# Altium footprint library Single_Channel_fNIRS.PcbLib: 18 footprints (part 1 of 2)
Each footprint in its own frame and in the unit in brackets; x right, y up, seen from the top. Pads: shape width x height; smd on the part's side, far side on the other; paste and mask are expansions set on the pad; w line width, h text height; cw(c..) or ccw(c..) is an arc to the next point about the centre after c.
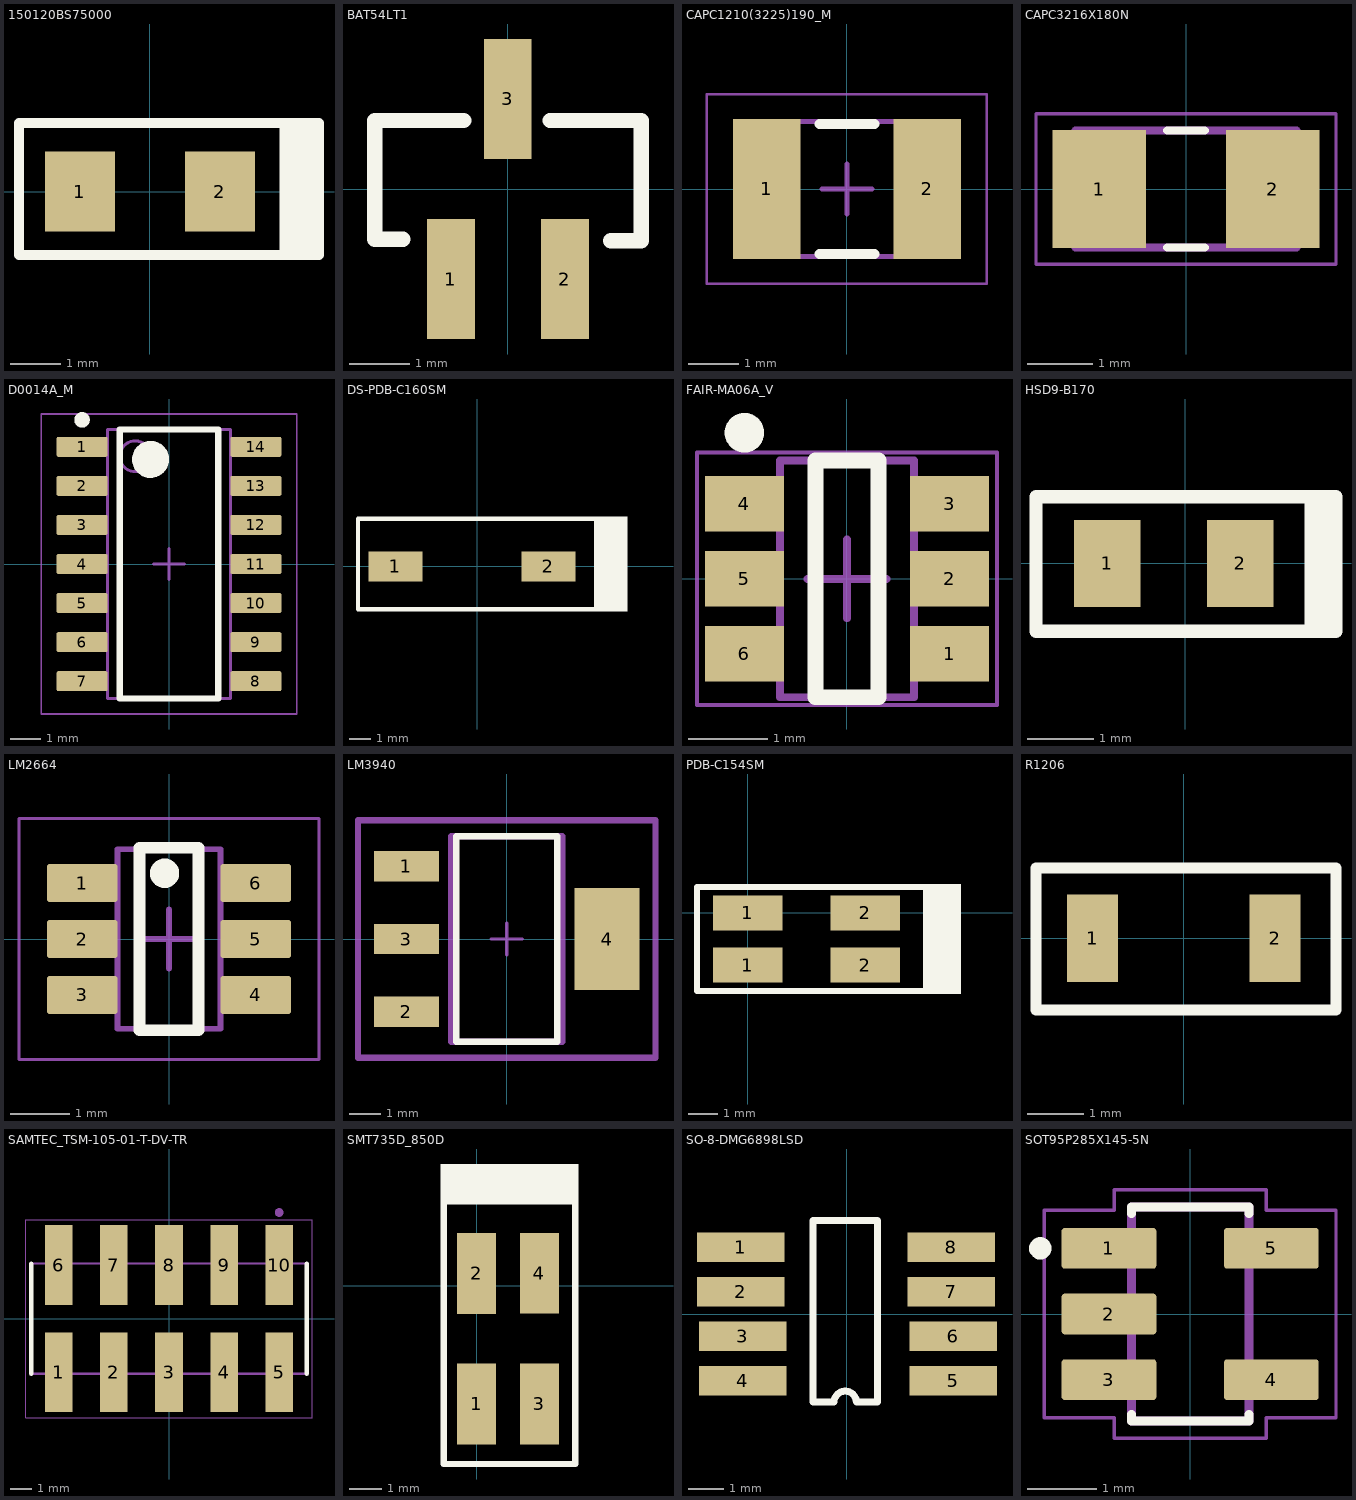
[diagram p0: the footprints below, top view; thin cyan lines are the x and y axes]

## 150120BS75000 [mm]
pads (2):
  rect 1.4x1.6 smd: 1(-1.4,0) 2(1.4,0)
Top Overlay:
  rectangle: 2.591,-1.219 3.378,1.372
  lines w0.2: -2.616,-1.27 3.378,-1.27 3.378,1.372 -2.616,1.372 -2.616,1.184 -2.616,-1.27

## BAT54LT1 [mm]
pads (3):
  rect 0.8x2 smd: 1(-0.95,-1.503) 2(0.95,-1.503) 3(-0.001,1.503)
Top Overlay:
  lines w0.254: -1.75,-0.84 -2.22,-0.84 -2.22,1.142 -0.734,1.142 ; 0.701,1.142 2.225,1.142 2.225,-0.865 1.717,-0.865

## CAPC1210(3225)190_M [mm] "Chip Capacitor, Body 3.2x2.5mm, Height 1.9mm, IPC Low Density"
height 1.9
pads (2):
  rect 1.35x2.8 smd: 1(-1.6,0) 2(1.6,0)
Top Overlay:
  lines w0.2: -0.55,-1.3 0.55,-1.3 ; -0.55,1.3 0.55,1.3
Mechanical 13:
  lines w0.1: -1.7,-1.35 1.7,-1.35 1.7,1.35 -1.7,1.35 -1.7,-1.35
Mechanical 15:
  lines w0.05: -2.8,-1.9 2.8,-1.9 2.8,1.9 -2.8,1.9 -2.8,-1.9
  lines w0.1: -0.5,0 0.5,0 ; 0,-0.5 0,0.5
3D body: height 1.9, standoff 0, extent 1.2,-1.35 1.7,1.35
3D body: height 1.9, standoff 0, extent -1.7,-1.35 -1.2,1.35
3D body: height 1.9, standoff 0, extent -1.2,-1.35 1.2,1.35

## CAPC3216X180N [mm]
pads (2):
  rect 1.44x1.82 smd: 1(-1.336,0) 2(1.336,0)
Top Overlay:
  lines w0.127: -0.29,-0.9 0.29,-0.9 ; -0.29,0.9 0.29,0.9
Mechanical 13:
  lines w0.127: -1.7,-0.9 1.7,-0.9 1.7,0.9 -1.7,0.9 -1.7,-0.9
Mechanical 15:
  lines w0.05: -2.308,-1.158 2.308,-1.158 2.308,1.158 -2.308,1.158 -2.308,-1.158
3D body "step_temp.STEP": height 1.8, standoff 0, extent -1.6,-0.8 1.6,0.8

## D0014A_M [mm] "SOIC, 14-Leads, Body 8.75x4mm, Pitch 1.27mm, IPC Low Density"
height 1.75
pads (14):
  rrect15% 1.65x0.65 smd: 1(-2.825,3.81) 2(-2.825,2.54) 3(-2.825,1.27) 4(-2.825,0) 5(-2.825,-1.27) 6(-2.825,-2.54) 7(-2.825,-3.81) 8(2.825,-3.81) 9(2.825,-2.54) 10(2.825,-1.27) 11(2.825,0) 12(2.825,1.27) 13(2.825,2.54) 14(2.825,3.81)
Top Overlay:
  circle w0.25: c-2.825,4.685 r0.125
  circle w0.6: c-0.6,3.4 r0.3
  lines w0.2: -1.6,-4.375 -1.6,4.375 1.6,4.375 1.6,-4.375 -1.6,-4.375
Mechanical 1:
  text ".Designator" at -1.575,-0.325 h0.8
Mechanical 13:
  circle w0.1: c-1.1,3.5 r0.5
  lines w0.1: -2,-4.375 -2,4.375 2,4.375 2,-4.375 -2,-4.375
Mechanical 15:
  lines w0.05: -4.15,-4.875 -4.15,4.875 4.15,4.875 4.15,-4.875 -4.15,-4.875
  lines w0.1: -0.5,0 0.5,0 ; 0,-0.5 0,0.5
3D body "SOIC-14akaD0014AakaM14A.stp": height 1.59, standoff -0.01, extent -3.023,-4.318 3.022,4.318

## DS-PDB-C160SM [mm]
pads (2):
  rect 2.5x1.4 smd: 1(-3.785,0) 2(3.3,0)
Top Overlay:
  region: 5.41,2.307 5.41,-2.081 6.96,-2.081 6.96,2.307
  lines w0.2: 5.41,-1.981 -5.512,-1.981 -5.512,2.21 5.41,2.21

## FAIR-MA06A_V [mm] "SOT23, 6-Leads, Body 3x1.7mm, Pitch 0.95mm"
height 1.1
pads (6):
  rect 1x0.7 smd: 1(1.3,-0.95) 2(1.3,0) 3(1.3,0.95) 4(-1.3,0.95) 5(-1.3,0) 6(-1.3,-0.95)
Top Overlay:
  circle w0.25: c-1.3,1.85 r0.125
  lines w0.2: -0.4,-1.5 0.4,-1.5 0.4,1.5 -0.4,1.5 -0.4,-1.5
Mechanical 13:
  lines w0.1: -0.85,-1.5 -0.85,1.5 0.85,1.5 0.85,-1.5 -0.85,-1.5
Mechanical 15:
  lines w0.05: -1.9,-1.6 -1.9,1.6 1.9,1.6 1.9,-1.6 -1.9,-1.6
  lines w0.1: -0.5,0 0.5,0 ; 0,-0.5 0,0.5
3D body "SOT95P280X110-6L.step": height 1.1, standoff 0, extent -1.5,-1.5 1.5,1.5

## HSD9-B170 [mm]
pads (2):
  rect 1x1.3 smd: 1(-1.168,0) 2(0.825,0)
Top Overlay:
  lines w0.2: -0.676,1 2.261,1 2.261,-1.017 -2.235,-1.017 -2.235,-0.329 -2.235,1.001 -0.435,1.001
  lines w0.254: 1.912,-0.932 1.912,0.96 ; 2.063,-0.914 2.063,0.969

## LM2664 [mm] "SOT23, 6-Leads, Body 3.05x1.75mm, Pitch 0.95mm, IPC Low Density"
height 1.45
pads (6):
  rrect15% 1.2x0.65 smd: 1(-1.475,0.95) 2(-1.475,0) 3(-1.475,-0.95) 4(1.475,-0.95) 5(1.475,0) 6(1.475,0.95)
Top Overlay:
  circle w0.25: c-0.076,1.118 r0.125
  lines w0.2: -0.5,-1.55 -0.5,1.55 0.5,1.55 0.5,-1.55 -0.5,-1.55
Mechanical 1:
  text ".Designator" at -0.635,-0.127 h0.4
Mechanical 13:
  lines w0.1: -0.875,-1.525 0.875,-1.525 0.875,1.525 -0.875,1.525 -0.875,-1.525
Mechanical 15:
  lines w0.05: -2.55,-2.05 2.55,-2.05 2.55,2.05 -2.55,2.05 -2.55,-2.05
  lines w0.1: -0.5,0 0.5,0 ; 0,-0.5 0,0.5
3D body "DBV0006AakaMF06A.stp": height 1.11, standoff -0.01, extent -1.422,-1.461 1.422,1.46

## LM3940 [mm]
pads (4):
  rect 2.054x0.953 smd paste+0 mask+0: 1(-3.175,2.3) 2(-3.175,-2.3) 3(-3.175,0)
  rect 2.054x3.212 smd paste+0 mask+0: 4(3.175,0)
Top Overlay:
  lines w0.2: -1.6,-3.25 -1.6,3.25 1.6,3.25 1.6,-3.25 -1.6,-3.25
Top 3D Body:
  lines w0.2: -1.75,-3.25 -1.75,3.25 1.75,3.25 1.75,-3.25 -1.75,-3.25
Top Courtyard:
  lines w0.2: -4.702,-3.75 -4.702,3.75 4.702,3.75 4.702,-3.75 -4.702,-3.75
Top Assembly:
  lines w0.2: -4.702,-3.75 -4.702,3.75 4.702,3.75 4.702,-3.75 -4.702,-3.75
  text ".Designator" at 0,0.188 h1
Top Component Center:
  lines w0.1: -0.5,0 0.5,0 ; 0,-0.5 0,0.5
3D body "IC_Texas_Instruments_UA78M33CDCY_eec.STEP": height 0.25, standoff 0, extent -4.753,-3.683 4.651,3.817

## PDB-C154SM [mm]
pads (4):
  rect 2.4x1.2 smd: 1(0,-1.803) 1(0,0) 2(4.064,-1.803) 2(4.064,0)
Top Overlay:
  region: 6.064,0.998 6.064,-2.803 7.366,-2.803 7.366,0.998
  lines w0.2: -1.753,-2.7 -1.753,0.9 6.325,0.9 6.325,-2.7 -1.753,-2.7

## R1206 [mm]
pads (2):
  rect 0.9x1.55 smd: 1(-1.615,0) 2(1.615,0)
Top Overlay:
  lines w0.2: -2.616,-1.27 2.692,-1.27 2.692,1.245 -2.616,1.245 -2.616,-1.27

## SAMTEC_TSM-105-01-T-DV-TR [mm]
pads (10):
  rect 1.27x3.68 smd: 1(-5.08,-2.475) 2(-2.54,-2.475) 3(0,-2.475) 4(2.54,-2.475) 5(5.08,-2.475) 6(-5.08,2.475) 7(-2.54,2.475) 8(0,2.475) 9(2.54,2.475) 10(5.08,2.475)
Top Overlay:
  lines w0.2: -6.35,-2.54 -6.35,2.54 ; 6.35,-2.54 6.35,2.54
Mechanical 13:
  circle w0.2: c5.08,4.9 r0.1
  lines w0.1: -6.35,-2.54 -6.35,2.54 6.35,2.54 6.35,-2.54 -6.35,-2.54
Mechanical 15:
  lines w0.05: -6.6,-4.565 -6.6,4.565 6.6,4.565 6.6,-4.565 -6.6,-4.565
3D body "step_temp.STEP": height 9.91, standoff 0, extent -6.35,-3.848 6.35,3.848

## SMT735D_850D [mm]
pads (4):
  rect 1.2x2.5 smd: 1(0,-3.658) 2(0,0.381) 3(1.941,-3.655) 4(1.941,0.383)
Top Overlay:
  rectangle: -1.118,2.515 3.15,3.759
  lines w0.2: -1.016,2.515 -1.016,-5.512 3.048,-5.512 3.048,2.515

## SO-8-DMG6898LSD [mm]
pads (8):
  rect 2.5x0.85 smd: 1(-3.025,1.905) 2(-3.025,0.635) 3(-2.975,-0.635) 4(-2.975,-1.905) 5(3.025,-1.905) 6(3.025,-0.635) 7(2.975,0.635) 8(2.975,1.905)
Top Overlay:
  lines w0.2: 0.191,2.667 0.788,2.667 ; 0.839,2.667 -0.966,2.667 -0.966,-2.515 -0.368,-2.515 cw(c-0.051,-2.515) 0.267,-2.515 0.864,-2.515 0.864,2.667

## SOT95P285X145-5N [mm]
pads (5):
  rrect15% 1.37x0.59 smd: 1(-1.175,0.95) 2(-1.175,0) 3(-1.175,-0.95) 4(1.175,-0.95) 5(1.175,0.95)
Top Overlay:
  circle w0.2: c-2.169,0.95 r0.062
  lines w0.127: -0.85,-1.45 -0.85,-1.55 0.85,-1.55 0.85,-1.45 ; -0.85,1.45 -0.85,1.55 0.85,1.55 0.85,1.45
Mechanical 13:
  lines w0.127: -0.85,-1.55 -0.85,1.55 0.85,1.55 0.85,-1.55 -0.85,-1.55
Mechanical 15:
  lines w0.05: -2.11,-1.5 -1.1,-1.5 -1.1,-1.8 1.1,-1.8 1.1,-1.5 2.11,-1.5 2.11,1.5 1.1,1.5 1.1,1.8 -1.1,1.8 -1.1,1.5 -2.11,1.5 -2.11,-1.5